# Altium footprint library PLCC-4.PcbLib: 2 footprints
Each footprint in its own frame and in the unit in brackets; x right, y up, seen from the top. Pads: shape width x height; smd on the part's side, far side on the other; paste and mask are expansions set on the pad; w line width, h text height; cw(c..) or ccw(c..) is an arc to the next point about the centre after c.
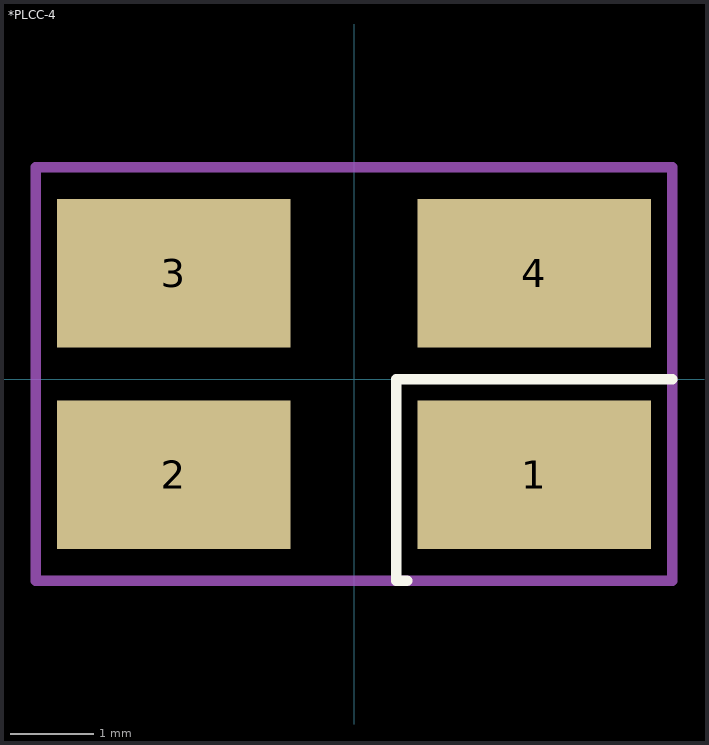
[diagram p0: the footprints below, top view; thin cyan lines are the x and y axes]

## *PLCC-4 [mil]
pads (4):
  rect 110x70 smd: 1(85,-45) 2(-85,-45) 3(-85,50) 4(85,50)
Top Overlay:
  lines w5: 25,-95 20,-95 20,0 150,0
Mechanical 4:
  lines w5: -150,-95 25,-95 ; -150,-95 -150,100 ; -150,-95 25,-95 ; -150,-95 -150,100 ; -150,100 150,100 ; -150,100 150,100 ; 25,-95 150,-95 ; 25,-95 150,-95 ; 150,-95 150,0 ; 150,-95 150,0 ; 150,0 150,100 ; 150,0 150,100
3D body "LTST-E682KRKGWT--3DModel-STEP-56544.STEP": height 74.8, standoff 0.01, extent -71.85,-52.16 65.95,58.07

## PCBComponent_1 [mil]